# EAGLE library part AD8018 (library ad8018)
xDSL Line Drive Amplifier
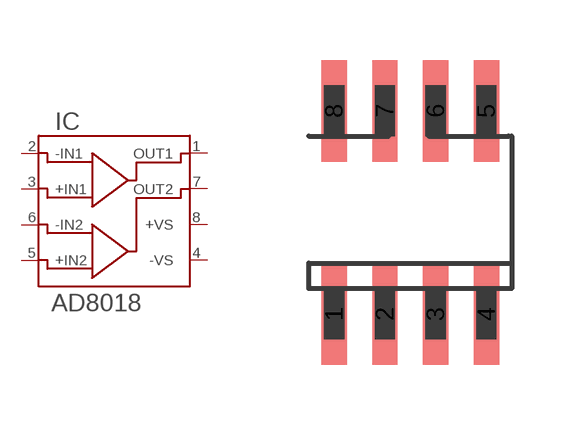
[diagram p0: symbol with the pads of SO08; footprint SO08]

Designator prefix IC

## AD8018  [SO08]
1  OUT1  out
2  -IN1  in
3  +IN1  in
4  -VS  pwr
5  +IN2  in
6  -IN2  in
7  OUT2  out
8  +VS  pwr

## Footprint SO08 (pad centres in mm)
smd 0.635 x 2.54: 1 -1.905,-2.54; 2 -0.635,-2.54; 3 0.635,-2.54; 4 1.905,-2.54; 5 1.905,2.54; 6 0.635,2.54; 7 -0.635,2.54; 8 -1.905,2.54